# Altium schematic symbol library R-CRCW06031K00JNEA.Schlib: 1 symbol
Pins are listed as number, name and electrical type; pins without a type are passive.

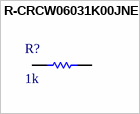
[diagram p0: symbol R-CRCW06031K00JNEA]

## R-CRCW06031K00JNEA
designator R?, comment 1k
Thick Film Resistors - SMD 1/10watt 1.0Kohms 5%
pins: 1, 2